# EAGLE library part LTC3605 (library PowerProducts)
15V, 5A Synchronous Step-Down Regulator
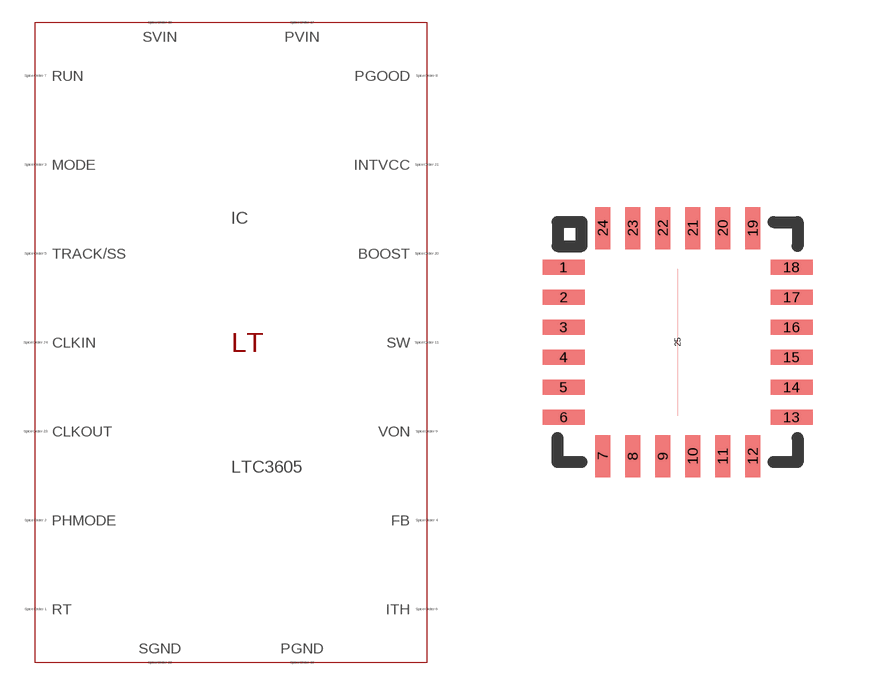
[diagram p260: symbol with the pads of QFN24(UF); footprint QFN24(UF)]

Designator prefix IC

## LTC3605 (SPICEMODEL: LTC3605.sub; SPICEPREFIX: X; VALUE2: LTC3605)  [QFN24(UF)]
1  RT  pas
2  PHMODE  pas
3  MODE  pas
4  FB  pas
5  TRACK/SS  pas
6  ITH  pas
7  RUN  pas
8  PGOOD  pas
9  VON  pas
10  PGND  pas
11  SW  pas
12  SW  pas
13  SW  pas
14  SW  pas
15  SW  pas
16  SW  pas
17  PVIN  pas
18  PVIN  pas
19  SVIN  pas
20  BOOST  pas
21  INTVCC  pas
22  SGND  pas
23  CLKOUT  pas
24  CLKIN  pas
25  PGND  pas

## Footprint QFN24(UF) (pad centres in mm)
Package generated from: QFN24(UF).asc (!PADS-POWERPCB-V5.0-BASIC! DESIGN DATABASE ASCII FILE 1.0) with :import-pads-powerpcb-v5.ulp Version 1.0.1 at 04.10.2012 14:11:24
smd 1.05 x 0.375: 1 -2.85,1.875; 2 -2.85,1.125; 3 -2.85,0.375; 4 -2.85,-0.375; 5 -2.85,-1.125; 6 -2.85,-1.875; 13 2.85,-1.875; 14 2.85,-1.125; 15 2.85,-0.375; 16 2.85,0.375; 17 2.85,1.125; 18 2.85,1.875
smd 0.375 x 1.05: 7 -1.875,-2.85; 8 -1.125,-2.85; 9 -0.375,-2.85; 10 0.375,-2.85; 11 1.125,-2.85; 12 1.875,-2.85; 19 1.875,2.85; 20 1.125,2.85; 21 0.375,2.85; 22 -0.375,2.85; 23 -1.125,2.85; 24 -1.875,2.85
smd 0 x 3.675: 25 0,0